# Altium schematic symbol library Transciever.SchLib: 3 symbols
Pins are listed as number, name and electrical type; pins without a type are passive.

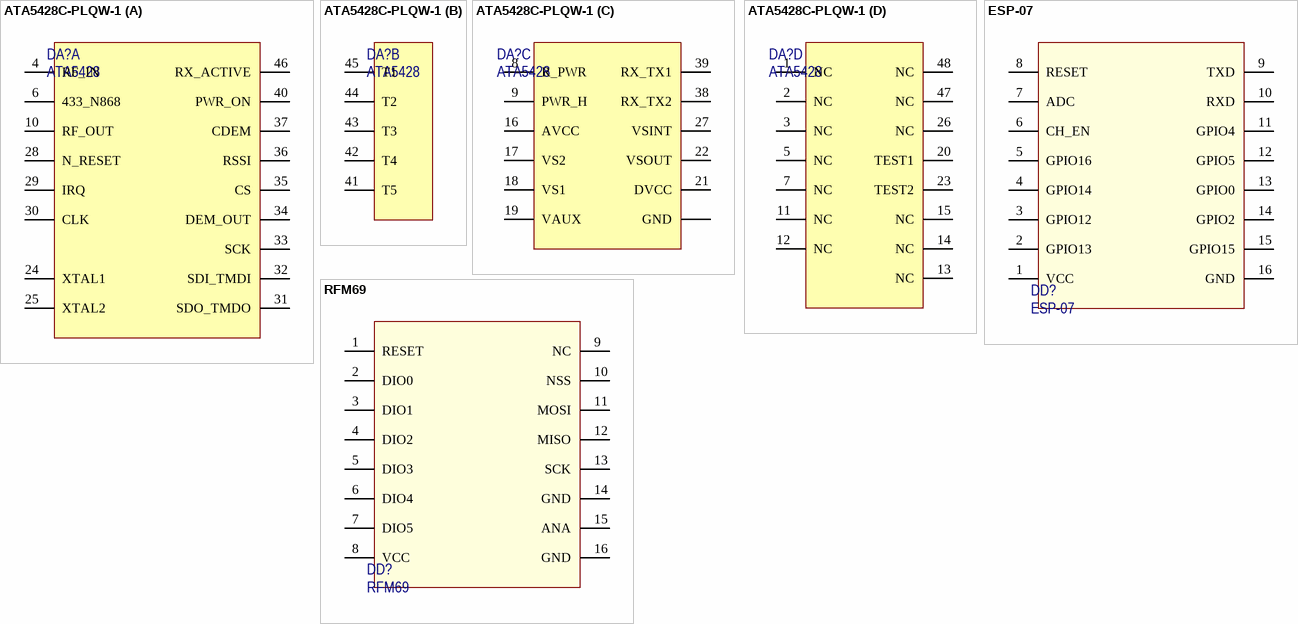
[diagram p0: symbols ATA5428C-PLQW-1 to RFM69]

## ATA5428C-PLQW-1
designator DA?, comment ATA5428
Atmel 433/ 886 MHz Trans; ManufacturerPartNumber: ATA5428C-PLQW-1; Manufacturer: Atmel; ComponentLink1URL: http://www.mouser.com/ds/2/36/atmel-4841-transceiver-ics-ata5428_datasheet-477288.pdf; ComponentLink1Description: http://www.mouser.com/ds/2/36/atmel-4841-transceiver-ics-ata5428_datasheet-477288.pdf; Supplier: Digikey; Price: 290; Note: ATA5428
footprint QFN50P700X700X90_HS-49M (QFN, 48-Leads, Body 7,00x7,00mm, Pitch 0,50mm, Thermal Pad 5,60x5,60mm, IPC Low Density)
part A pins: 4 RF_IN "RF input", 6 433_N868 "Selects RF input/output frequency range", 10 RF_OUT "RF output", 24 XTAL1 "Reference crystal", 25 XTAL2 "Reference crystal", 28 N_RESET "Output pin to reset a connected microcontroller", 29 IRQ "Interrupt request", 30 CLK "Clock output to connect a microcontroller", 31 SDO_TMDO "Serial data out/transparent mode data out", 32 SDI_TMDI "Serial data in/transparent mode data in", 33 SCK "Serial clock", 34 DEM_OUT "Demodulator open drain output signal", 35 CS "Chip select for serial interface", 36 RSSI "Output of the RSSI amplifier", 37 CDEM "Capacitor to adjust the lower cut-off frequency data filter", 40 PWR_ON "Input to switch on the system (active high)", 46 RX_ACTIVE "Indicates RX operation mode"
part B pins: 41 T5 "Key input 5 (can also be used to switch on the system (active low))", 42 T4 "Key input 4 (can also be used to switch on the system (active low))", 43 T3 "Key input 3 (can also be used to switch on the system (active low))", 44 T2 "Key input 2 (can also be used to switch on the system (active low))", 45 T1 "Key input 1 (can also be used to switch on the system (active low))"
part C pins: 8 R_PWR "Resistor to adjust output power", 9 PWR_H "Pin to select output power", 16 AVCC "Blocking of the analog voltage supply", 17 VS2 "Power supply input for voltage range 4.4V to 6.6V", 18 VS1 "Power supply input for voltage range 2.4V to 3.6V", 19 VAUX "Auxiliary supply voltage input", 21 DVCC "Blocking of the digital voltage supply", 22 VSOUT "Output voltage power supply for external devices", 27 VSINT "Microcontroller interface supply voltage", 38 RX_TX2 "GND pin to decouple LNA in TX mode", 39 RX_TX1 "Switch pin to decouple LNA in TX mode", 49 GND (power) "Ground"
part D pins: 1 NC "Not connected", 2 NC "Not connected", 3 NC "Not connected", 5 NC "Not connected", 7 NC "Not connected", 11 NC "Not connected", 12 NC "Not connected", 13 NC "Not connected", 14 NC "Not connected", 15 NC "Not connected", 20 TEST1 "Test input, at GND during operation", 23 TEST2 "Test input, at GND during operation", 26 NC "Not connected", 47 NC "Not connected", 48 NC "Not connected"

## ESP-07
designator DD?
Wifi Module r; Manufacturer: Espressif System; ManufacturerPartNumber: ESP-07; Price: 226; Supplier: China; Note: *
footprint ESP-07 (Посадочное место для WiFi модуля ESP-07)
pins: 1 VCC, 2 GPIO13, 3 GPIO12, 4 GPIO14, 5 GPIO16, 6 CH_EN, 7 ADC, 8 RESET, 9 TXD, 10 RXD, 11 GPIO4, 12 GPIO5, 13 GPIO0, 14 GPIO2, 15 GPIO15, 16 GND

## RFM69
designator DD?
433 MHz RF Trans Module; Manufacturer: HopeRF Electronic; ManufacturerPartNumber: RFM69; Price: 597; ComponentLink1URL: http://www.hoperf.com/upload/rf/RFM69HW-V1.3.pdf; ComponentLink1Description: Datasheet; Supplier: China; Note: *
footprint RFM69
pins: 1 RESET, 2 DIO0, 3 DIO1, 4 DIO2, 5 DIO3, 6 DIO4, 7 DIO5, 8 VCC, 9 NC, 10 NSS, 11 MOSI, 12 MISO, 13 SCK, 14 GND, 15 ANA, 16 GND